# Altium footprint library PcbLib1.PcbLib: 2 footprints
Each footprint in its own frame and in the unit in brackets; x right, y up, seen from the top. Pads: shape width x height; smd on the part's side, far side on the other; paste and mask are expansions set on the pad; w line width, h text height; cw(c..) or ccw(c..) is an arc to the next point about the centre after c.
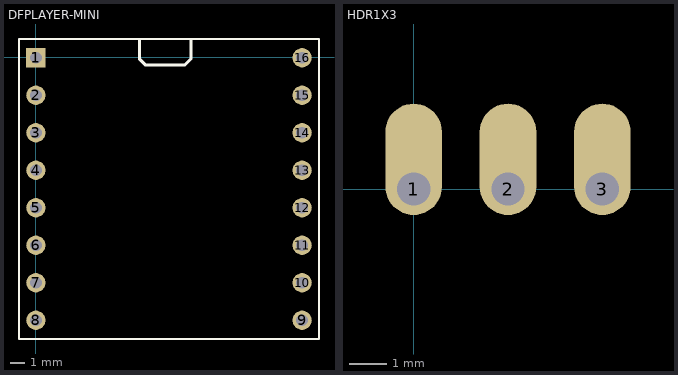
[diagram p0: the footprints below, top view; thin cyan lines are the x and y axes]

## DFPLAYER-MINI [mm]
pads (16):
  rect 1.308x1.308 hole 0.8: 1(-0.003,-0.024)
  round 1.308 hole 0.8: 2(-0.003,-2.564) 3(-0.003,-5.104) 4(-0.003,-7.644) 5(-0.003,-10.184) 6(-0.003,-12.724) 7(-0.003,-15.264) 8(-0.003,-17.804) 9(18.031,-17.804) 10(18.031,-15.264) 11(18.031,-12.724) 12(18.031,-10.184) 13(18.031,-7.644) 14(18.031,-5.104) 15(18.031,-2.564) 16(18.031,-0.024)
Top Overlay:
  lines w0.127: -1.146,-19.074 19.174,-19.074 ; -1.146,-19.074 -1.146,1.246 ; -1.146,-19.074 -1.146,1.246 ; -1.146,-19.074 19.174,-19.074 ; -1.146,1.246 19.174,1.246 ; -1.146,1.246 19.174,1.246 ; 19.174,-19.074 19.174,1.246 ; 19.174,-19.074 19.174,1.246
  lines w0.203: 7,1.2 7,-0.1 7.1,-0.2 7.3,-0.4 7.4,-0.5 10.1,-0.5 10.5,-0.1 10.5,1.2
3D body "DFPlayer Mini.STEP": height 10.5, standoff -0.7, extent -1.4,-21.96 19.4,1.5

## HDR1X3 [mm]
pads (3):
  oval 1.524x3 hole 0.9 copper offset 0,0.8: 1(0,0) 2(2.54,0) 3(5.08,0)